# Altium footprint library RF_GSM.PcbLib: 12 footprints
Each footprint in its own frame and in the unit in brackets; x right, y up, seen from the top. Pads: shape width x height; smd on the part's side, far side on the other; paste and mask are expansions set on the pad; w line width, h text height; cw(c..) or ccw(c..) is an arc to the next point about the centre after c.
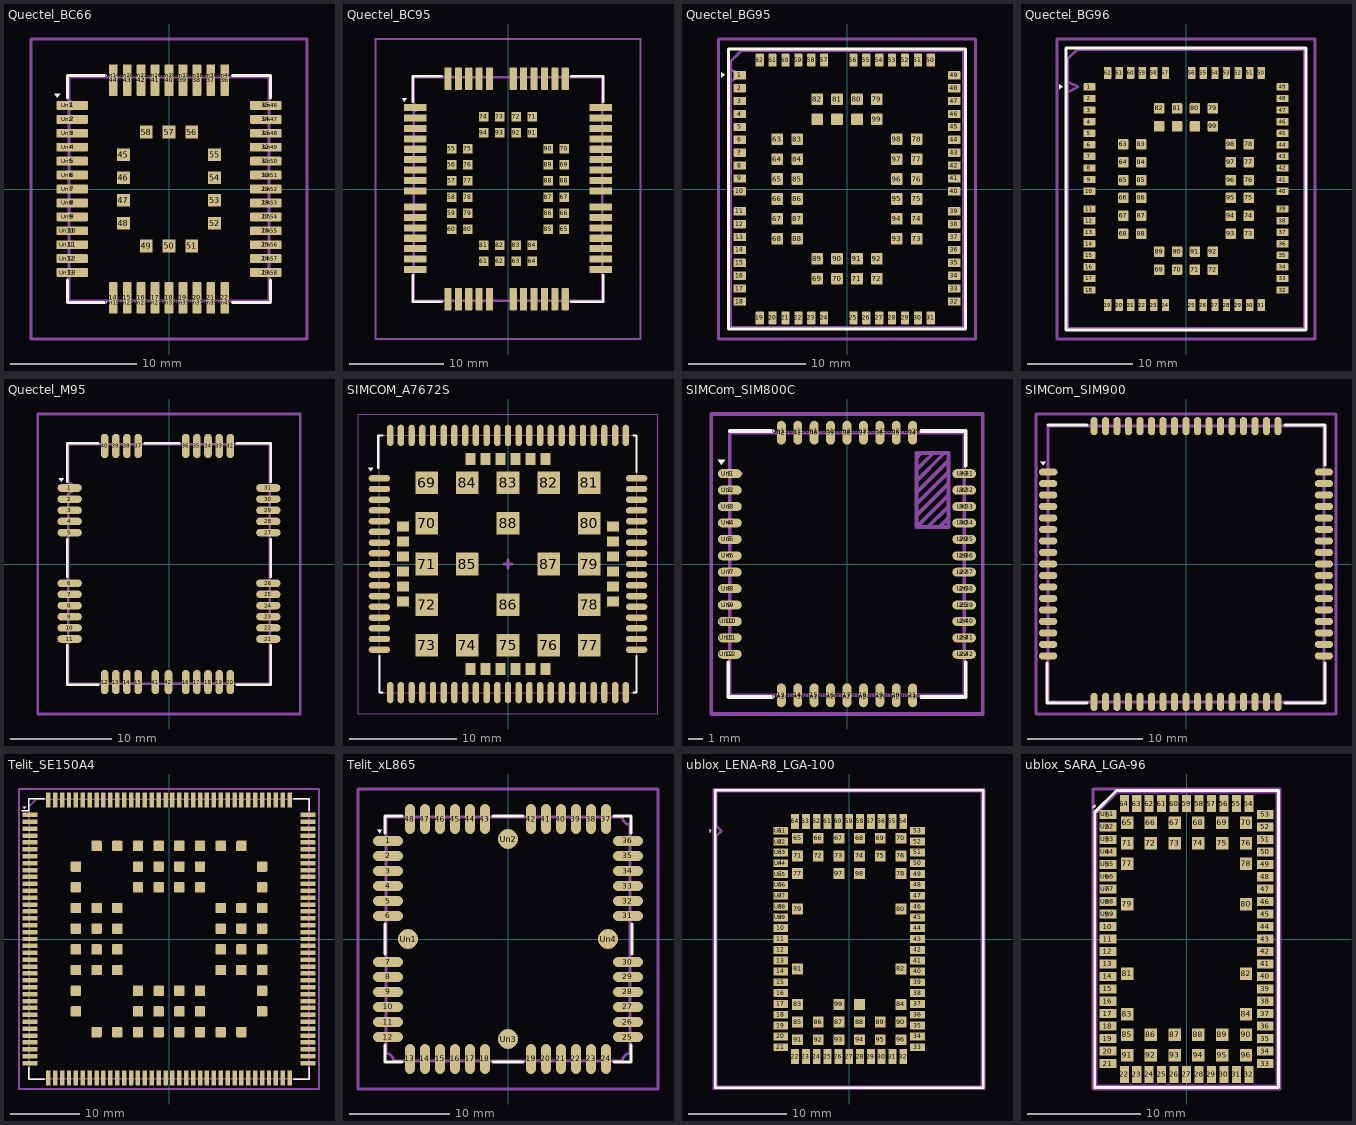
[diagram p0: the footprints below, top view; thin cyan lines are the x and y axes]

## Quectel_BC66 [mm]
pads (116):
  rrect25% 2.5x0.7 smd: 1(-7.65,6.6) 2(-7.65,5.5) 3(-7.65,4.4) 4(-7.65,3.3) 5(-7.65,2.2) 6(-7.65,1.1) 7(-7.65,0) 8(-7.65,-1.1) 9(-7.65,-2.2) 10(-7.65,-3.3) 11(-7.65,-4.4) 12(-7.65,-5.5) 13(-7.65,-6.6) 23(7.65,-6.6) 24(7.65,-5.5) 25(7.65,-4.4) 26(7.65,-3.3) 27(7.65,-2.2) 28(7.65,-1.1) 29(7.65,0) 30(7.65,1.1) 31(7.65,2.2) 32(7.65,3.3) 33(7.65,4.4) 34(7.65,5.5) 35(7.65,6.6)
  rrect25% 0.7x2.5 smd: 14(-4.4,-8.6) 15(-3.3,-8.6) 16(-2.2,-8.6) 17(-1.1,-8.6) 18(0,-8.6) 19(1.1,-8.6) 20(2.2,-8.6) 21(3.3,-8.6) 22(4.4,-8.6) 36(4.4,8.6) 37(3.3,8.6) 38(2.2,8.6) 39(1.1,8.6) 40(0,8.6) 41(-1.1,8.6) 42(-2.2,8.6) 43(-3.3,8.6) 44(-4.4,8.6)
  rect 1x1 smd: 45(-3.6,2.7) 46(-3.6,0.9) 47(-3.6,-0.9) 48(-3.6,-2.7) 49(-1.8,-4.5) 50(0,-4.5) 51(1.8,-4.5) 52(3.6,-2.7) 53(3.6,-0.9) 54(3.6,0.9) 55(3.6,2.7) 56(1.8,4.5) 57(0,4.5) 58(-1.8,4.5)
  rrect25% 2.9x0.595 on Top Paste: Un1(-8.05,6.6) Un2(-8.05,5.5) Un3(-8.05,4.4) Un4(-8.05,3.3) Un5(-8.05,2.2) Un6(-8.05,1.1) Un7(-8.05,0) Un8(-8.05,-1.1) Un9(-8.05,-2.2) Un10(-8.05,-3.3) Un11(-8.05,-4.4) Un12(-8.05,-5.5) Un13(-8.05,-6.6) Un46(8.05,6.6) Un47(8.05,5.5) Un48(8.05,4.4) Un49(8.05,3.3) Un50(8.05,2.2) Un51(8.05,1.1) Un52(8.05,0) Un53(8.05,-1.1) Un54(8.05,-2.2) Un55(8.05,-3.3) Un56(8.05,-4.4) Un57(8.05,-5.5) Un58(8.05,-6.6)
  rrect25% 0.595x2.9 on Top Paste: Un14(-4.4,9) Un15(-4.4,-9) Un20(-3.3,9) Un21(-3.3,-9) Un22(-2.2,9) Un23(-2.2,-9) Un26(-1.1,9) Un27(-1.1,-9) Un28(0,9) Un31(0,-9) Un32(1.1,9) Un33(1.1,-9) Un36(2.2,9) Un37(2.2,-9) Un38(3.3,9) Un39(3.3,-9) Un44(4.4,9) Un45(4.4,-9)
  round 0.9 on Top Paste: Un16(-3.6,2.7) Un17(-3.6,0.9) Un18(-3.6,-0.9) Un19(-3.6,-2.7) Un24(-1.8,4.5) Un25(-1.8,-4.5) Un29(0,4.5) Un30(0,-4.5) Un34(1.8,4.5) Un35(1.8,-4.5) Un40(3.6,2.7) Un41(3.6,0.9) Un42(3.6,-0.9) Un43(3.6,-2.7)
F.SilkS:
  region: -8.84,7.21 -9.08,7.54 -8.6,7.54
  lines w0.254: -8.01,-7.21 -8.01,-8.96 -5.01,-8.96 ; -8.01,7.21 -8.01,8.96 -5.01,8.96 ; 5.01,-8.96 8.01,-8.96 8.01,-7.21 ; 5.01,8.96 8.01,8.96 8.01,7.21
Top Assembly:
  lines w0.254: -7.9,6.25 -6.9,6.6 -7.9,6.95 ; -7.9,-8.85 7.9,-8.85 7.9,8.85 -7.9,8.85 -7.9,-8.85
  text "'.Designator'" at -4.047,-0.84 h1
Top Courtyard:
  lines w0.254: -10.9,-11.85 10.9,-11.85 10.9,11.85 -10.9,11.85 -10.9,-11.85
Top Designator:
  text ".Designator" at -7.618,-0.508 h1.52

## Quectel_BC95 [mm]
pads (188):
  rrect25% 2.4x0.75 smd: 1(-9.8,8.6) 2(-9.8,7.5) 3(-9.8,6.4) 4(-9.8,5.3) 5(-9.8,4.2) 6(-9.8,3.1) 7(-9.8,2) 8(-9.8,0.9) 9(-9.8,-0.2) 10(-9.8,-1.9) 11(-9.8,-3) 12(-9.8,-4.1) 13(-9.8,-5.2) 14(-9.8,-6.3) 15(-9.8,-7.4) 16(-9.8,-8.5) 28(9.8,-8.5) 29(9.8,-7.4) 30(9.8,-6.3) 31(9.8,-5.2) 32(9.8,-4.1) 33(9.8,-3) 34(9.8,-1.9) 35(9.8,-0.2) 36(9.8,0.9) 37(9.8,2) 38(9.8,3.1) 39(9.8,4.2) 40(9.8,5.3) 41(9.8,6.4) 42(9.8,7.5) 43(9.8,8.6)
  rrect25% 0.75x2.4 smd: 17(-6.35,-11.65) 18(-5.25,-11.65) 19(-4.15,-11.65) 20(-3.05,-11.65) 21(-1.95,-11.65) 22(0.55,-11.65) 23(1.65,-11.65) 24(2.75,-11.65) 25(3.85,-11.65) 26(4.95,-11.65) 27(6.05,-11.65) 44(6.05,11.65) 45(4.95,11.65) 46(3.85,11.65) 47(2.75,11.65) 48(1.65,11.65) 49(0.55,11.65) 50(-1.95,11.65) 51(-3.05,11.65) 52(-4.15,11.65) 53(-5.25,11.65) 54(-6.35,11.65)
  rect 1x1 smd: 55(-5.95,4.25) 56(-5.95,2.55) 57(-5.95,0.85) 58(-5.95,-0.85) 59(-5.95,-2.55) 60(-5.95,-4.25) 61(-2.55,-7.65) 62(-0.85,-7.65) 63(0.85,-7.65) 64(2.55,-7.65) 65(5.95,-4.25) 66(5.95,-2.55) 67(5.95,-0.85) 68(5.95,0.85) 69(5.95,2.55) 70(5.95,4.25) 71(2.55,7.65) 72(0.85,7.65) 73(-0.85,7.65) 74(-2.55,7.65) 75(-4.25,4.25) 76(-4.25,2.55) 77(-4.25,0.85) 78(-4.25,-0.85) 79(-4.25,-2.55) 80(-4.25,-4.25) 81(-2.55,-5.95) 82(-0.85,-5.95) 83(0.85,-5.95) 84(2.55,-5.95) 85(4.25,-4.25) 86(4.25,-2.55) 87(4.25,-0.85) 88(4.25,0.85) 89(4.25,2.55) 90(4.25,4.25) 91(2.55,5.95) 92(0.85,5.95) 93(-0.85,5.95) 94(-2.55,5.95)
  rrect25% 2.6x0.637 on Top Paste: Un1(-10.1,8.6) Un2(-10.1,7.5) Un3(-10.1,6.4) Un4(-10.1,5.3) Un5(-10.1,4.2) Un6(-10.1,3.1) Un7(-10.1,2) Un8(-10.1,0.9) Un9(-10.1,-0.2) Un10(-10.1,-1.9) Un11(-10.1,-3) Un12(-10.1,-4.1) Un13(-10.1,-5.2) Un14(-10.1,-6.3) Un15(-10.1,-7.4) Un16(-10.1,-8.5) Un79(10.1,8.6) Un80(10.1,7.5) Un81(10.1,6.4) Un82(10.1,5.3) Un83(10.1,4.2) Un84(10.1,3.1) Un85(10.1,2) Un86(10.1,0.9) Un87(10.1,-0.2) Un88(10.1,-1.9) Un89(10.1,-3) Un90(10.1,-4.1) Un91(10.1,-5.2) Un92(10.1,-6.3) Un93(10.1,-7.4) Un94(10.1,-8.5)
  rrect25% 0.637x2.6 on Top Paste: Un17(-6.35,11.95) Un18(-6.35,-11.95) Un25(-5.25,11.95) Un26(-5.25,-11.95) Un33(-4.15,11.95) Un34(-4.15,-11.95) Un35(-3.05,11.95) Un36(-3.05,-11.95) Un41(-1.95,11.95) Un42(-1.95,-11.95) Un47(0.55,11.95) Un48(0.55,-11.95) Un53(1.65,11.95) Un54(1.65,-11.95) Un59(2.75,11.95) Un60(2.75,-11.95) Un61(3.85,11.95) Un62(3.85,-11.95) Un69(4.95,11.95) Un70(4.95,-11.95) Un77(6.05,11.95) Un78(6.05,-11.95)
  round 0.9 on Top Paste: Un19(-5.95,4.25) Un20(-5.95,2.55) Un21(-5.95,0.85) Un22(-5.95,-0.85) Un23(-5.95,-2.55) Un24(-5.95,-4.25) Un27(-4.25,4.25) Un28(-4.25,2.55) Un29(-4.25,0.85) Un30(-4.25,-0.85) Un31(-4.25,-2.55) Un32(-4.25,-4.25) Un37(-2.55,7.65) Un38(-2.55,5.95) Un39(-2.55,-5.95) Un40(-2.55,-7.65) Un43(-0.85,7.65) Un44(-0.85,5.95) Un45(-0.85,-5.95) Un46(-0.85,-7.65) Un49(0.85,7.65) Un50(0.85,5.95) Un51(0.85,-5.95) Un52(0.85,-7.65) Un55(2.55,7.65) Un56(2.55,5.95) Un57(2.55,-5.95) Un58(2.55,-7.65) Un63(4.25,4.25) Un64(4.25,2.55) Un65(4.25,0.85) Un66(4.25,-0.85) Un67(4.25,-2.55) Un68(4.25,-4.25) Un71(5.95,4.25) Un72(5.95,2.55) Un73(5.95,0.85) Un74(5.95,-0.85) Un75(5.95,-2.55) Un76(5.95,-4.25)
F.SilkS:
  region: -10.94,9.235 -11.18,9.565 -10.7,9.565
  lines w0.254: -10.06,-9.135 -10.06,-11.91 -6.985,-11.91 ; -10.06,9.235 -10.06,11.91 -6.985,11.91 ; 6.685,-11.91 10.06,-11.91 10.06,-9.135 ; 6.685,11.91 10.06,11.91 10.06,9.235
Top Assembly:
  lines w0.254: -9.95,8.225 -8.95,8.6 -9.95,8.975 ; -9.95,-11.8 9.95,-11.8 9.95,11.8 -9.95,11.8 -9.95,-11.8
  text "'.Designator'" at -4.047,-0.84 h1
Top Courtyard:
  lines w0.254: -14,-15.85 14,-15.85 14,15.85 -14,15.85 -14,-15.85
Top Designator:
  text ".Designator" at -7.618,-0.508 h1.52

## Quectel_BG95 [mm]
pads (102):
  rrect20% 1.1x0.7 smd: 1(-9.15,9.7) 2(-9.15,8.6) 3(-9.15,7.5) 4(-9.15,6.4) 5(-9.15,5.3) 6(-9.15,4.2) 7(-9.15,3.1) 8(-9.15,2) 9(-9.15,0.9) 10(-9.15,-0.2) 11(-9.15,-1.9) 12(-9.15,-3) 13(-9.15,-4.1) 14(-9.15,-5.2) 15(-9.15,-6.3) 16(-9.15,-7.4) 17(-9.15,-8.5) 18(-9.15,-9.6) 32(9.15,-9.6) 33(9.15,-8.5) 34(9.15,-7.4) 35(9.15,-6.3) 36(9.15,-5.2) 37(9.15,-4.1) 38(9.15,-3) 39(9.15,-1.9) 40(9.15,-0.2) 41(9.15,0.9) 42(9.15,2) 43(9.15,3.1) 44(9.15,4.2) 45(9.15,5.3) 46(9.15,6.4) 47(9.15,7.5) 48(9.15,8.6) 49(9.15,9.7)
  rrect20% 0.7x1.1 smd: 19(-7.45,-11) 20(-6.35,-11) 21(-5.25,-11) 22(-4.15,-11) 23(-3.05,-11) 24(-1.95,-11) 25(0.55,-11) 26(1.65,-11) 27(2.75,-11) 28(3.85,-11) 29(4.95,-11) 30(6.05,-11) 31(7.15,-11) 50(7.15,11) 51(6.05,11) 52(4.95,11) 53(3.85,11) 54(2.75,11) 55(1.65,11) 56(0.55,11) 57(-1.95,11) 58(-3.05,11) 59(-4.15,11) 60(-5.25,11) 61(-6.35,11) 62(-7.45,11)
  rrect20% 1x1 smd: 63(-5.95,4.25) 64(-5.95,2.55) 65(-5.95,0.85) 66(-5.95,-0.85) 67(-5.95,-2.55) 68(-5.95,-4.25) 69(-2.55,-7.65) 70(-0.85,-7.65) 71(0.85,-7.65) 72(2.55,-7.65) 73(5.95,-4.25) 74(5.95,-2.55) 75(5.95,-0.85) 76(5.95,0.85) 77(5.95,2.55) 78(5.95,4.25) 79(2.55,7.65) 80(0.85,7.65) 81(-0.85,7.65) 82(-2.55,7.65) 83(-4.25,4.25) 84(-4.25,2.55) 85(-4.25,0.85) 86(-4.25,-0.85) 87(-4.25,-2.55) 88(-4.25,-4.25) 89(-2.55,-5.95) 90(-0.85,-5.95) 91(0.85,-5.95) 92(2.55,-5.95) 93(4.25,-4.25) 94(4.25,-2.55) 95(4.25,-0.85) 96(4.25,0.85) 97(4.25,2.55) 98(4.25,4.25) 99(2.55,5.95) 100(0.85,5.95) 101(-0.85,5.95) 102(-2.55,5.95)
F.SilkS:
  region: -10.42,9.74 -10.75,9.5 -10.75,9.98
  lines w0.254: -10.1,-11.95 10.1,-11.95 10.1,11.95 -10.1,11.95 -10.1,-11.95
Top Assembly:
  lines w0.254: -9.95,9.2 -8.95,9.7 -9.95,10.2 ; -9.95,-11.8 9.95,-11.8 9.95,11.8 -9.03,11.8 -9.95,10.88 -9.95,-11.8
  text "'.Designator'" at -4.047,-0.84 h1
Top Courtyard:
  lines w0.254: -10.95,-12.8 10.95,-12.8 10.95,12.8 -10.95,12.8 -10.95,-12.8
Top Designator:
  text ".Designator" at -7.618,-0.508 h1.52

## Quectel_BG96 [mm]
pads (204):
  rrect20% 1.15x0.7 smd: 1(-9.18,9.7) 2(-9.18,8.6) 3(-9.18,7.5) 4(-9.18,6.4) 5(-9.18,5.3) 6(-9.18,4.2) 7(-9.18,3.1) 8(-9.18,2) 9(-9.18,0.9) 10(-9.18,-0.2) 11(-9.18,-1.9) 12(-9.18,-3) 13(-9.18,-4.1) 14(-9.18,-5.2) 15(-9.18,-6.3) 16(-9.18,-7.4) 17(-9.18,-8.5) 18(-9.18,-9.6) 32(9.18,-9.6) 33(9.18,-8.5) 34(9.18,-7.4) 35(9.18,-6.3) 36(9.18,-5.2) 37(9.18,-4.1) 38(9.18,-3) 39(9.18,-1.9) 40(9.18,-0.2) 41(9.18,0.9) 42(9.18,2) 43(9.18,3.1) 44(9.18,4.2) 45(9.18,5.3) 46(9.18,6.4) 47(9.18,7.5) 48(9.18,8.6) 49(9.18,9.7)
  rrect20% 0.7x1.15 smd: 19(-7.45,-11.03) 20(-6.35,-11.03) 21(-5.25,-11.03) 22(-4.15,-11.03) 23(-3.05,-11.03) 24(-1.95,-11.03) 25(0.55,-11.03) 26(1.65,-11.03) 27(2.75,-11.03) 28(3.85,-11.03) 29(4.95,-11.03) 30(6.05,-11.03) 31(7.15,-11.03) 50(7.15,11.03) 51(6.05,11.03) 52(4.95,11.03) 53(3.85,11.03) 54(2.75,11.03) 55(1.65,11.03) 56(0.55,11.03) 57(-1.95,11.03) 58(-3.05,11.03) 59(-4.15,11.03) 60(-5.25,11.03) 61(-6.35,11.03) 62(-7.45,11.03)
  rrect20% 1x1 smd: 63(-5.95,4.25) 64(-5.95,2.55) 65(-5.95,0.85) 66(-5.95,-0.85) 67(-5.95,-2.55) 68(-5.95,-4.25) 69(-2.55,-7.65) 70(-0.85,-7.65) 71(0.85,-7.65) 72(2.55,-7.65) 73(5.95,-4.25) 74(5.95,-2.55) 75(5.95,-0.85) 76(5.95,0.85) 77(5.95,2.55) 78(5.95,4.25) 79(2.55,7.65) 80(0.85,7.65) 81(-0.85,7.65) 82(-2.55,7.65) 83(-4.25,4.25) 84(-4.25,2.55) 85(-4.25,0.85) 86(-4.25,-0.85) 87(-4.25,-2.55) 88(-4.25,-4.25) 89(-2.55,-5.95) 90(-0.85,-5.95) 91(0.85,-5.95) 92(2.55,-5.95) 93(4.25,-4.25) 94(4.25,-2.55) 95(4.25,-0.85) 96(4.25,0.85) 97(4.25,2.55) 98(4.25,4.25) 99(2.55,5.95) 100(0.85,5.95) 101(-0.85,5.95) 102(-2.55,5.95)
  rrect25% 1.1x0.6 on Top Paste: Un1(-9.18,9.7) Un2(-9.18,8.6) Un3(-9.18,7.5) Un4(-9.18,6.4) Un5(-9.18,5.3) Un6(-9.18,4.2) Un7(-9.18,3.1) Un8(-9.18,2) Un9(-9.18,0.9) Un10(-9.18,-0.2) Un11(-9.18,-1.9) Un12(-9.18,-3) Un13(-9.18,-4.1) Un14(-9.18,-5.2) Un15(-9.18,-6.3) Un16(-9.18,-7.4) Un17(-9.18,-8.5) Un18(-9.18,-9.6) Un85(9.18,9.7) Un86(9.18,8.6) Un87(9.18,7.5) Un88(9.18,6.4) Un89(9.18,5.3) Un90(9.18,4.2) Un91(9.18,3.1) Un92(9.18,2) Un93(9.18,0.9) Un94(9.18,-0.2) Un95(9.18,-1.9) Un96(9.18,-3) Un97(9.18,-4.1) Un98(9.18,-5.2) Un99(9.18,-6.3) Un100(9.18,-7.4) Un101(9.18,-8.5) Un102(9.2,-9.6)
  rrect25% 0.6x1.1 on Top Paste: Un19(-7.45,11.03) Un20(-7.45,-11.03) Un21(-6.35,11.03) Un22(-6.35,-11.03) Un29(-5.25,11.03) Un30(-5.25,-11.03) Un37(-4.15,11.03) Un38(-4.15,-11.03) Un39(-3.05,11.03) Un40(-3.05,-11.03) Un45(-1.95,11.03) Un46(-1.95,-11.03) Un51(0.55,11.03) Un52(0.55,-11.03) Un57(1.65,11.03) Un58(1.65,-11.03) Un63(2.75,11.03) Un64(2.75,-11.03) Un65(3.85,11.03) Un66(3.85,-11.03) Un73(4.95,11.03) Un74(4.95,-11.03) Un81(6.05,11.03) Un82(6.05,-11.03) Un83(7.15,11.03) Un84(7.15,-11.03)
  round 0.95 on Top Paste: Un23(-5.95,4.25) Un24(-5.95,2.55) Un25(-5.95,0.85) Un26(-5.95,-0.85) Un27(-5.95,-2.55) Un28(-5.95,-4.25) Un31(-4.25,4.25) Un32(-4.25,2.55) Un33(-4.25,0.85) Un34(-4.25,-0.85) Un35(-4.25,-2.55) Un36(-4.25,-4.25) Un41(-2.55,7.65) Un42(-2.55,5.95) Un43(-2.55,-5.95) Un44(-2.55,-7.65) Un47(-0.85,7.65) Un48(-0.85,5.95) Un49(-0.85,-5.95) Un50(-0.85,-7.65) Un53(0.85,7.65) Un54(0.85,5.95) Un55(0.85,-5.95) Un56(0.85,-7.65) Un59(2.55,7.65) Un60(2.55,5.95) Un61(2.55,-5.95) Un62(2.55,-7.65) Un67(4.25,4.25) Un68(4.25,2.55) Un69(4.25,0.85) Un70(4.25,-0.85) Un71(4.25,-2.55) Un72(4.25,-4.25) Un75(5.95,4.25) Un76(5.95,2.55) Un77(5.95,0.85) Un78(5.95,-0.85) Un79(5.95,-2.55) Un80(5.95,-4.25)
F.SilkS:
  region: -11.7,9.7 -12.03,9.46 -12.03,9.94
  lines w0.254: -11.4,-13.4 11.4,-13.4 11.4,13.4 -11.4,13.4 -11.4,-13.4
Top Assembly:
  lines w0.254: -11.25,9.2 -10.25,9.7 -11.25,10.2 ; -11.25,-13.25 11.25,-13.25 11.25,13.25 -10.33,13.25 -11.25,12.33 -11.25,-13.25
  text "'.Designator'" at -4.047,-0.84 h1
Top Courtyard:
  lines w0.254: -12.25,-14.25 12.25,-14.25 12.25,14.25 -12.25,14.25 -12.25,-14.25
Top Designator:
  text ".Designator" at -7.618,-0.508 h1.52

## Quectel_M95 [mm]
pads (84):
  rrect100% 2.4x0.75 smd: 1(-9.8,7.5) 2(-9.8,6.4) 3(-9.8,5.3) 4(-9.8,4.2) 5(-9.8,3.1) 6(-9.8,-1.9) 7(-9.8,-3) 8(-9.8,-4.1) 9(-9.8,-5.2) 10(-9.8,-6.3) 11(-9.8,-7.4) 21(9.8,-7.4) 22(9.8,-6.3) 23(9.8,-5.2) 24(9.8,-4.1) 25(9.8,-3) 26(9.8,-1.9) 27(9.8,3.1) 28(9.8,4.2) 29(9.8,5.3) 30(9.8,6.4) 31(9.8,7.5)
  rrect100% 0.75x2.4 smd: 12(-6.35,-11.65) 13(-5.25,-11.65) 14(-4.15,-11.65) 15(-3.05,-11.65) 16(1.65,-11.65) 17(2.75,-11.65) 18(3.85,-11.65) 19(4.95,-11.65) 20(6.05,-11.65) 32(6.05,11.65) 33(4.95,11.65) 34(3.85,11.65) 35(2.75,11.65) 36(1.65,11.65) 37(-3.05,11.65) 38(-4.15,11.65) 39(-5.25,11.65) 40(-6.35,11.65) 41(-1.35,-11.65) 42(-0.05,-11.65)
  rrect100% 2.8x0.675 on Top Paste: Un1(-10.1,7.5) Un2(-10.1,6.4) Un3(-10.1,5.3) Un4(-10.1,4.2) Un5(-10.1,3.1) Un6(-10.1,-1.9) Un7(-10.1,-3) Un8(-10.1,-4.1) Un9(-10.1,-5.2) Un10(-10.1,-6.3) Un11(-10.1,-7.4) Un32(10.1,7.5) Un33(10.1,6.4) Un34(10.1,5.3) Un35(10.1,4.2) Un36(10.1,3.1) Un37(10.1,-1.9) Un38(10.1,-3) Un39(10.1,-4.1) Un40(10.1,-5.2) Un41(10.1,-6.3) Un42(10.1,-7.4)
  rrect100% 0.675x2.8 on Top Paste: Un12(-6.35,11.95) Un13(-6.35,-11.95) Un14(-5.25,11.95) Un15(-5.25,-11.95) Un16(-4.15,11.95) Un17(-4.15,-11.95) Un18(-3.05,11.95) Un19(-3.05,-11.95) Un20(-1.35,-11.95) Un21(-0.05,-11.95) Un22(1.65,11.95) Un23(1.65,-11.95) Un24(2.75,11.95) Un25(2.75,-11.95) Un26(3.85,11.95) Un27(3.85,-11.95) Un28(4.95,11.95) Un29(4.95,-11.95) Un30(6.05,11.95) Un31(6.05,-11.95)
F.SilkS:
  region: -10.64,8.14 -10.88,8.47 -10.4,8.47
  lines w0.254: -10.06,-8.04 -10.06,-11.91 -6.99,-11.91 ; -10.06,-1.26 -10.06,2.46 ; -10.06,8.14 -10.06,11.91 -6.99,11.91 ; -2.41,11.91 1.01,11.91 ; 6.69,-11.91 10.06,-11.91 10.06,-8.04 ; 6.69,11.91 10.06,11.91 10.06,8.14 ; 10.06,-1.26 10.06,2.46
Top Assembly:
  lines w0.254: -9.95,-11.8 -9.95,6.925 -8.95,7.5 -9.95,8.075 -9.95,11.8 9.95,11.8 9.95,-11.8 -9.95,-11.8
  text "'.Designator'" at -4.047,-0.84 h1
Top Courtyard:
  lines w0.254: -12.95,-14.8 -12.95,14.8 12.95,14.8 12.95,-14.8 -12.95,-14.8
Top Designator:
  text ".Designator" at -7.618,-0.508 h1.52

## SIMCOM_A7672S [mm]
pads (124):
  oval 2x0.6 smd: 1(-12,8) 2(-12,7) 3(-12,6) 4(-12,5) 5(-12,4) 6(-12,3) 7(-12,2) 8(-12,1) 9(-12,0) 10(-12,-1) 11(-12,-2) 12(-12,-3) 13(-12,-4) 14(-12,-5) 15(-12,-6) 16(-12,-7) 17(-12,-8) 35(12,-8) 36(12,-7) 37(12,-6) 38(12,-5) 39(12,-4) 40(12,-3) 41(12,-2) 42(12,-1) 43(12,0) 44(12,1) 45(12,2) 46(12,3) 47(12,4) 48(12,5) 49(12,6) 50(12,7) 51(12,8)
  oval 0.6x2 smd: 18(-8,-12) 19(-7,-12) 20(-6,-12) 21(-5,-12) 22(-4,-12) 23(-3,-12) 24(-2,-12) 25(-1,-12) 26(0,-12) 27(1,-12) 28(2,-12) 29(3,-12) 30(4,-12) 31(5,-12) 32(6,-12) 33(7,-12) 34(8,-12) 52(8,12) 53(7,12) 54(6,12) 55(5,12) 56(4,12) 57(3,12) 58(2,12) 59(1,12) 60(0,12) 61(-1,12) 62(-2,12) 63(-3,12) 64(-4,12) 65(-5,12) 66(-6,12) 67(-7,12) 68(-8,12) 89(-11,-12) 90(-10,-12) 91(-9,-12) 92(9,-12) 93(10,-12) 94(11,-12) 95(11,12) 96(10,12) 97(9,12) 98(-9,12) 99(-10,12) 100(-11,12)
  rect 2.1x2.1 smd: 69(-7.6,7.6) 70(-7.6,3.8) 71(-7.6,0) 72(-7.6,-3.8) 73(-7.6,-7.6) 74(-3.8,-7.6) 75(0,-7.6) 76(3.8,-7.6) 77(7.6,-7.6) 78(7.6,-3.8) 79(7.6,0) 80(7.6,3.8) 81(7.6,7.6) 82(3.8,7.6) 83(0,7.6) 84(-3.8,7.6) 85(-3.8,0) 86(0,-3.8) 87(3.8,0) 88(0,3.8)
  rect 1.1x0.9 smd: 101(-9.8,3.5) 102(-9.8,2.1) 103(-9.8,0.7) 104(-9.8,-0.7) 105(-9.8,-2.1) 106(-9.8,-3.5) 113(9.8,-3.5) 114(9.8,-2.1) 115(9.8,-0.7) 116(9.8,0.7) 117(9.8,2.1) 118(9.8,3.5)
  rect 0.9x1.1 smd: 107(-3.5,-9.8) 108(-2.1,-9.8) 109(-0.7,-9.8) 110(0.7,-9.8) 111(2.1,-9.8) 112(3.5,-9.8) 119(3.5,9.8) 120(2.1,9.8) 121(0.7,9.8) 122(-0.7,9.8) 123(-2.1,9.8) 124(-3.5,9.8)
F.SilkS:
  region: -12.799,8.648 -13.039,8.978 -12.559,8.978
  lines w0.2: -12.109,8.949 -12.109,12 -11.7,12 ; -12,-8.6 -12,-12 -11.7,-12 ; 11.7,-12 12,-12 12,-8.6 ; 11.7,12 12,12 12,8.6
Top Component Center:
  lines w0.254: -0.381,0 0.381,0 ; 0,-0.381 0,0.381
Top Assembly:
  region: -12.561,8.1 -12.231,8.34 -12.231,7.86
  lines w0.1: -12,-12 12,-12 12,12 -12,12 -12,-12
Top Courtyard:
  lines w0.1: -14,-14 -14,14 14,14 14,-14 -14,-14
Top Designator:
  text ".Designator" at -7.618,-0.508 h1.52
3D body "SIMCOM_A7672S.STEP": height 2.6, standoff 0, extent -12,-12 12,12

## SIMCom_SIM800C [mm]
pads (84):
  rrect100% 1.6x0.6 smd: 1(-7.85,6.05) 2(-7.85,4.95) 3(-7.85,3.85) 4(-7.85,2.75) 5(-7.85,1.65) 6(-7.85,0.55) 7(-7.85,-0.55) 8(-7.85,-1.65) 9(-7.85,-2.75) 10(-7.85,-3.85) 11(-7.85,-4.95) 12(-7.85,-6.05) 22(7.85,-6.05) 23(7.85,-4.95) 24(7.85,-3.85) 25(7.85,-2.75) 26(7.85,-1.65) 27(7.85,-0.55) 28(7.85,0.55) 29(7.85,1.65) 30(7.85,2.75) 31(7.85,3.85) 32(7.85,4.95) 33(7.85,6.05)
  rrect100% 0.6x1.6 smd: 13(-4.4,-8.8) 14(-3.3,-8.8) 15(-2.2,-8.8) 16(-1.1,-8.8) 17(0,-8.8) 18(1.1,-8.8) 19(2.2,-8.8) 20(3.3,-8.8) 21(4.4,-8.8) 34(4.4,8.8) 35(3.3,8.8) 36(2.2,8.8) 37(1.1,8.8) 38(0,8.8) 39(-1.1,8.8) 40(-2.2,8.8) 41(-3.3,8.8) 42(-4.4,8.8)
  rrect100% 1.8x0.55 on Top Paste: Un1(-7.95,6.05) Un2(-7.95,4.95) Un3(-7.95,3.85) Un4(-7.95,2.75) Un5(-7.95,1.65) Un6(-7.95,0.55) Un7(-7.95,-0.55) Un8(-7.95,-1.65) Un9(-7.95,-2.75) Un10(-7.95,-3.85) Un11(-7.95,-4.95) Un12(-7.95,-6.05) Un31(7.95,6.05) Un32(7.95,4.95) Un33(7.95,3.85) Un34(7.95,2.75) Un35(7.95,1.65) Un36(7.95,0.55) Un37(7.95,-0.55) Un38(7.95,-1.65) Un39(7.95,-2.75) Un40(7.95,-3.85) Un41(7.95,-4.95) Un42(7.95,-6.05)
  rrect100% 0.55x1.8 on Top Paste: Un13(-4.4,8.9) Un14(-4.4,-8.9) Un15(-3.3,8.9) Un16(-3.3,-8.9) Un17(-2.2,8.9) Un18(-2.2,-8.9) Un19(-1.1,8.9) Un20(-1.1,-8.9) Un21(0,8.9) Un22(0,-8.9) Un23(1.1,8.9) Un24(1.1,-8.9) Un25(2.2,8.9) Un26(2.2,-8.9) Un27(3.3,8.9) Un28(3.3,-8.9) Un29(4.4,8.9) Un30(4.4,-8.9)
F.SilkS:
  region: -8.41,6.64 -8.65,6.97 -8.17,6.97
  lines w0.254: -7.96,-6.6 -7.96,-8.91 -5,-8.91 ; -7.85,8.91 -5,8.91 ; 5,-8.91 7.96,-8.91 7.96,-6.6 ; 5,8.91 7.96,8.91 7.96,6.6
Top Assembly:
  lines w0.254: -7.85,5.8 -7.1,6.05 -7.85,6.3 ; -7.85,-8.8 7.85,-8.8 7.85,8.8 -7.85,8.8 -7.85,-8.8
  text "'.Designator'" at -4.047,-0.84 h1
Top Courtyard:
  lines w0.254: -9.1,-10.05 9.1,-10.05 9.1,10.05 -9.1,10.05 -9.1,-10.05
Top Designator:
  text ".Designator" at -7.618,-0.508 h1.52
Dwgs.User:
  lines w0.254: 4.65,3.25 6.8,5.4 ; 4.65,4.02 6.8,6.17 ; 4.65,4.79 6.8,6.94 ; 4.65,5.56 6.51,7.42 ; 4.65,6.33 5.78,7.42 ; 4.65,7.1 4.97,7.42 ; 5.415,2.486 6.8,3.86 ; 6.18,2.48 6.8,3.09 ; 6.8,4.63 4.65,2.48 ; 4.65,2.48 6.8,2.48 6.8,7.43 4.65,7.43 4.65,2.48
Cmts.User:
  text "Keep out" at 5.563,3.2 h0.5
  text "of Area" at 6.3,3.677 h0.5

## SIMCom_SIM900 [mm]
pads (68):
  rrect100% 1.6x0.6 smd: 1(-12,8) 2(-12,7) 3(-12,6) 4(-12,5) 5(-12,4) 6(-12,3) 7(-12,2) 8(-12,1) 9(-12,0) 10(-12,-1) 11(-12,-2) 12(-12,-3) 13(-12,-4) 14(-12,-5) 15(-12,-6) 16(-12,-7) 17(-12,-8) 35(12,-8) 36(12,-7) 37(12,-6) 38(12,-5) 39(12,-4) 40(12,-3) 41(12,-2) 42(12,-1) 43(12,0) 44(12,1) 45(12,2) 46(12,3) 47(12,4) 48(12,5) 49(12,6) 50(12,7) 51(12,8)
  rrect100% 0.6x1.6 smd: 18(-8,-12) 19(-7,-12) 20(-6,-12) 21(-5,-12) 22(-4,-12) 23(-3,-12) 24(-2,-12) 25(-1,-12) 26(0,-12) 27(1,-12) 28(2,-12) 29(3,-12) 30(4,-12) 31(5,-12) 32(6,-12) 33(7,-12) 34(8,-12) 52(8,12) 53(7,12) 54(6,12) 55(5,12) 56(4,12) 57(3,12) 58(2,12) 59(1,12) 60(0,12) 61(-1,12) 62(-2,12) 63(-3,12) 64(-4,12) 65(-5,12) 66(-6,12) 67(-7,12) 68(-8,12)
F.SilkS:
  region: -12.43,8.58 -12.67,8.91 -12.19,8.91
  lines w0.254: -12.11,-8.6 -12.11,-12.11 -8.6,-12.11 ; -12,12.11 -8.6,12.11 ; 8.6,-12.11 12.11,-12.11 12.11,-8.6 ; 8.6,12.11 12.11,12.11 12.11,8.6
Top Assembly:
  lines w0.254: -12,7.73 -11.25,8 -12,8.28 ; -12,-12 12,-12 12,12 -12,12 -12,-12
  text "'.Designator'" at -4.047,-6.34 h1
Top Courtyard:
  lines w0.254: -13.05,-13.05 13.05,-13.05 13.05,13.05 -13.05,13.05 -13.05,-13.05
Top Designator:
  text ".Designator" at -7.618,-0.508 h1.52
Cmts.User:
  text "Area B" at -5.833,1.733 h0.5
  text "Keepout vias" at -6.66,0.255 h0.5
  text "Keepout any" at -2.705,6.067 h0.5
  text "type of copper" at -3.143,5.067 h0.5
  text "A" at -0.79,7.15 h0.5
  text "Area" at -1.306,7.95 h0.5

## Telit_SE150A4 [mm]
pads (466):
  rrect25% 2.2x0.65 smd: 1(-20.15,18) 2(-20.15,17) 3(-20.15,16) 4(-20.15,15) 5(-20.15,14) 6(-20.15,13) 7(-20.15,12) 8(-20.15,11) 9(-20.15,10) 10(-20.15,9) 11(-20.15,8) 12(-20.15,7) 13(-20.15,6) 14(-20.15,5) 15(-20.15,4) 16(-20.15,3) 17(-20.15,2) 18(-20.15,1) 19(-20.15,0) 20(-20.15,-1) 21(-20.15,-2) 22(-20.15,-3) 23(-20.15,-4) 24(-20.15,-5) 25(-20.15,-6) 26(-20.15,-7) 27(-20.15,-8) 28(-20.15,-9) 29(-20.15,-10) 30(-20.15,-11) 31(-20.15,-12) 32(-20.15,-13) 33(-20.15,-14) 34(-20.15,-15) 35(-20.15,-16) 36(-20.15,-17) 37(-20.15,-18) 74(20.15,-18) 75(20.15,-17) 76(20.15,-16) 77(20.15,-15) 78(20.15,-14) 79(20.15,-13) 80(20.15,-12) 81(20.15,-11) 82(20.15,-10) 83(20.15,-9) 84(20.15,-8) 85(20.15,-7) 86(20.15,-6) 87(20.15,-5) 88(20.15,-4) 89(20.15,-3) 90(20.15,-2) 91(20.15,-1) 92(20.15,0) 93(20.15,1) 94(20.15,2) 95(20.15,3) 96(20.15,4) 97(20.15,5) 98(20.15,6) 99(20.15,7) 100(20.15,8) 101(20.15,9) 102(20.15,10) 103(20.15,11) 104(20.15,12) 105(20.15,13) 106(20.15,14) 107(20.15,15) 108(20.15,16) 109(20.15,17) 110(20.15,18)
  rrect25% 0.65x2.2 smd: 38(-17.5,-20.15) 39(-16.5,-20.15) 40(-15.5,-20.15) 41(-14.5,-20.15) 42(-13.5,-20.15) 43(-12.5,-20.15) 44(-11.5,-20.15) 45(-10.5,-20.15) 46(-9.5,-20.15) 47(-8.5,-20.15) 48(-7.5,-20.15) 49(-6.5,-20.15) 50(-5.5,-20.15) 51(-4.5,-20.15) 52(-3.5,-20.15) 53(-2.5,-20.15) 54(-1.5,-20.15) 55(-0.5,-20.15) 56(0.5,-20.15) 57(1.5,-20.15) 58(2.5,-20.15) 59(3.5,-20.15) 60(4.5,-20.15) 61(5.5,-20.15) 62(6.5,-20.15) 63(7.5,-20.15) 64(8.5,-20.15) 65(9.5,-20.15) 66(10.5,-20.15) 67(11.5,-20.15) 68(12.5,-20.15) 69(13.5,-20.15) 70(14.5,-20.15) 71(15.5,-20.15) 72(16.5,-20.15) 73(17.5,-20.15) 111(17.5,20.15) 112(16.5,20.15) 113(15.5,20.15) 114(14.5,20.15) 115(13.5,20.15) 116(12.5,20.15) 117(11.5,20.15) 118(10.5,20.15) 119(9.5,20.15) 120(8.5,20.15) 121(7.5,20.15) 122(6.5,20.15) 123(5.5,20.15) 124(4.5,20.15) 125(3.5,20.15) 126(2.5,20.15) 127(1.5,20.15) 128(0.5,20.15) 129(-0.5,20.15) 130(-1.5,20.15) 131(-2.5,20.15) 132(-3.5,20.15) 133(-4.5,20.15) 134(-5.5,20.15) 135(-6.5,20.15) 136(-7.5,20.15) 137(-8.5,20.15) 138(-9.5,20.15) 139(-10.5,20.15) 140(-11.5,20.15) 141(-12.5,20.15) 142(-13.5,20.15) 143(-14.5,20.15) 144(-15.5,20.15) 145(-16.5,20.15) 146(-17.5,20.15)
  rrect17% 1.5x1.5 smd: 147(-13.5,10.5) 148(-13.5,7.5) 149(-13.5,4.5) 150(-13.5,1.5) 151(-13.5,-1.5) 152(-13.5,-4.5) 153(-13.5,-7.5) 154(-13.5,-10.5) 155(-10.5,-13.5) 156(-7.5,-13.5) 157(-4.5,-13.5) 158(-1.5,-13.5) 159(1.5,-13.5) 160(4.5,-13.5) 161(7.5,-13.5) 162(10.5,-13.5) 163(13.5,-10.5) 164(13.5,-7.5) 165(13.5,-4.5) 166(13.5,-1.5) 167(13.5,1.5) 168(13.5,4.5) 169(13.5,7.5) 170(13.5,10.5) 171(10.5,13.5) 172(7.5,13.5) 173(4.5,13.5) 174(1.5,13.5) 175(-1.5,13.5) 176(-4.5,13.5) 177(-7.5,13.5) 178(-10.5,13.5) 179(-10.5,4.5) 180(-10.5,1.5) 181(-10.5,-1.5) 182(-10.5,-4.5) 183(-4.5,-10.5) 184(-1.5,-10.5) 185(1.5,-10.5) 186(4.5,-10.5) 187(10.5,-4.5) 188(10.5,-1.5) 189(10.5,1.5) 190(10.5,4.5) 191(4.5,10.5) 192(1.5,10.5) 193(-1.5,10.5) 194(-4.5,10.5) 195(-7.5,4.5) 196(-7.5,1.5) 197(-7.5,-1.5) 198(-7.5,-4.5) 199(-4.5,-7.5) 200(-1.5,-7.5) 201(1.5,-7.5) 202(4.5,-7.5) 203(7.5,-4.5) 204(7.5,-1.5) 205(7.5,1.5) 206(7.5,4.5) 207(4.5,7.5) 208(1.5,7.5) 209(-1.5,7.5) 210(-4.5,7.5)
  rrect25% 0.6x0.6 on Top Paste: Un1(-13.85,10.85) Un2(-13.85,10.15) Un3(-13.85,7.85) Un4(-13.85,7.15) Un5(-13.85,4.85) Un6(-13.85,4.15) Un7(-13.85,1.85) Un8(-13.85,1.15) Un9(-13.85,-1.15) Un10(-13.85,-1.85) Un11(-13.85,-4.15) Un12(-13.85,-4.85) Un13(-13.85,-7.15) Un14(-13.85,-7.85) Un15(-13.85,-10.15) Un16(-13.85,-10.85) Un17(-13.15,10.85) Un18(-13.15,10.15) Un19(-13.15,7.85) Un20(-13.15,7.15) Un21(-13.15,4.85) Un22(-13.15,4.15) Un23(-13.15,1.85) Un24(-13.15,1.15) Un25(-13.15,-1.15) Un26(-13.15,-1.85) Un27(-13.15,-4.15) Un28(-13.15,-4.85) Un29(-13.15,-7.15) Un30(-13.15,-7.85) Un31(-13.15,-10.15) Un32(-13.15,-10.85) Un33(-10.85,13.85) Un34(-10.85,13.15) Un35(-10.85,4.85) Un36(-10.85,4.15) Un37(-10.85,1.85) Un38(-10.85,1.15) Un39(-10.85,-1.15) Un40(-10.85,-1.85) Un41(-10.85,-4.15) Un42(-10.85,-4.85) Un43(-10.85,-13.15) Un44(-10.85,-13.85) Un45(-10.15,13.85) Un46(-10.15,13.15) Un47(-10.15,4.85) Un48(-10.15,4.15) Un49(-10.15,1.85) Un50(-10.15,1.15) Un51(-10.15,-1.15) Un52(-10.15,-1.85) Un53(-10.15,-4.15) Un54(-10.15,-4.85) Un55(-10.15,-13.15) Un56(-10.15,-13.85) Un57(-7.85,13.85) Un58(-7.85,13.15) Un59(-7.85,4.85) Un60(-7.85,4.15) Un61(-7.85,1.85) Un62(-7.85,1.15) Un63(-7.85,-1.15) Un64(-7.85,-1.85) Un65(-7.85,-4.15) Un66(-7.85,-4.85) Un67(-7.85,-13.15) Un68(-7.85,-13.85) Un69(-7.15,13.85) Un70(-7.15,13.15) Un71(-7.15,4.85) Un72(-7.15,4.15) Un73(-7.15,1.85) Un74(-7.15,1.15) Un75(-7.15,-1.15) Un76(-7.15,-1.85) Un77(-7.15,-4.15) Un78(-7.15,-4.85) Un79(-7.15,-13.15) Un80(-7.15,-13.85) Un81(-4.85,13.85) Un82(-4.85,13.15) Un83(-4.85,10.85) Un84(-4.85,10.15) Un85(-4.85,7.85) Un86(-4.85,7.15) Un87(-4.85,-7.15) Un88(-4.85,-7.85) Un89(-4.85,-10.15) Un90(-4.85,-10.85) Un91(-4.85,-13.15) Un92(-4.85,-13.85) Un93(-4.15,13.85) Un94(-4.15,13.15) Un95(-4.15,10.85) Un96(-4.15,10.15) Un97(-4.15,7.85) Un98(-4.15,7.15) Un99(-4.15,-7.15) Un100(-4.15,-7.85) Un101(-4.15,-10.15) Un102(-4.15,-10.85) Un103(-4.15,-13.15) Un104(-4.15,-13.85) Un105(-1.85,13.85) Un106(-1.85,13.15) Un107(-1.85,10.85) Un108(-1.85,10.15) Un109(-1.85,7.85) Un110(-1.85,7.15) Un111(-1.85,-7.15) Un112(-1.85,-7.85) Un113(-1.85,-10.15) Un114(-1.85,-10.85) Un115(-1.85,-13.15) Un116(-1.85,-13.85) Un117(-1.15,13.85) Un118(-1.15,13.15) Un119(-1.15,10.85) Un120(-1.15,10.15) Un121(-1.15,7.85) Un122(-1.15,7.15) Un123(-1.15,-7.15) Un124(-1.15,-7.85) Un125(-1.15,-10.15) Un126(-1.15,-10.85) Un127(-1.15,-13.15) Un128(-1.15,-13.85) Un129(1.15,13.85) Un130(1.15,13.15) Un131(1.15,10.85) Un132(1.15,10.15) Un133(1.15,7.85) Un134(1.15,7.15) Un135(1.15,-7.15) Un136(1.15,-7.85) Un137(1.15,-10.15) Un138(1.15,-10.85) Un139(1.15,-13.15) Un140(1.15,-13.85) Un141(1.85,13.85) Un142(1.85,13.15) Un143(1.85,10.85) Un144(1.85,10.15) Un145(1.85,7.85) Un146(1.85,7.15) Un147(1.85,-7.15) Un148(1.85,-7.85) Un149(1.85,-10.15) Un150(1.85,-10.85) Un151(1.85,-13.15) Un152(1.85,-13.85) Un153(4.15,13.85) Un154(4.15,13.15) Un155(4.15,10.85) Un156(4.15,10.15) Un157(4.15,7.85) Un158(4.15,7.15) Un159(4.15,-7.15) Un160(4.15,-7.85) Un161(4.15,-10.15) Un162(4.15,-10.85) Un163(4.15,-13.15) Un164(4.15,-13.85) Un165(4.85,13.85) Un166(4.85,13.15) Un167(4.85,10.85) Un168(4.85,10.15) Un169(4.85,7.85) Un170(4.85,7.15) Un171(4.85,-7.15) Un172(4.85,-7.85) Un173(4.85,-10.15) Un174(4.85,-10.85) Un175(4.85,-13.15) Un176(4.85,-13.85) Un177(7.15,13.85) Un178(7.15,13.15) Un179(7.15,4.85) Un180(7.15,4.15) Un181(7.15,1.85) Un182(7.15,1.15) Un183(7.15,-1.15) Un184(7.15,-1.85) Un185(7.15,-4.15) Un186(7.15,-4.85) Un187(7.15,-13.15) Un188(7.15,-13.85) Un189(7.85,13.85) Un190(7.85,13.15) Un191(7.85,4.85) Un192(7.85,4.15) Un193(7.85,1.85) Un194(7.85,1.15) Un195(7.85,-1.15) Un196(7.85,-1.85) Un197(7.85,-4.15) Un198(7.85,-4.85) Un199(7.85,-13.15) Un200(7.85,-13.85) Un201(10.15,13.85) Un202(10.15,13.15) Un203(10.15,4.85) Un204(10.15,4.15) Un205(10.15,1.85) Un206(10.15,1.15) Un207(10.15,-1.15) Un208(10.15,-1.85) Un209(10.15,-4.15) Un210(10.15,-4.85) Un211(10.15,-13.15) Un212(10.15,-13.85) Un213(10.85,13.85) Un214(10.85,13.15) Un215(10.85,4.85) Un216(10.85,4.15) Un217(10.85,1.85) Un218(10.85,1.15) Un219(10.85,-1.15) Un220(10.85,-1.85) Un221(10.85,-4.15) Un222(10.85,-4.85) Un223(10.85,-13.15) Un224(10.85,-13.85) Un225(13.15,10.85) Un226(13.15,10.15) Un227(13.15,7.85) Un228(13.15,7.15) Un229(13.15,4.85) Un230(13.15,4.15) Un231(13.15,1.85) Un232(13.15,1.15) Un233(13.15,-1.15) Un234(13.15,-1.85) Un235(13.15,-4.15) Un236(13.15,-4.85) Un237(13.15,-7.15) Un238(13.15,-7.85) Un239(13.15,-10.15) Un240(13.15,-10.85) Un241(13.85,10.85) Un242(13.85,10.15) Un243(13.85,7.85) Un244(13.85,7.15) Un245(13.85,4.85) Un246(13.85,4.15) Un247(13.85,1.85) Un248(13.85,1.15) Un249(13.85,-1.15) Un250(13.85,-1.85) Un251(13.85,-4.15) Un252(13.85,-4.85) Un253(13.85,-7.15) Un254(13.85,-7.85) Un255(13.85,-10.15) Un256(13.85,-10.85)
F.SilkS:
  region: -20.96,18.87 -21.2,19.2 -20.72,19.2
  lines w0.254: -21.35,18.6 -20.35,18.6 -20.35,20.35 -18.1,20.35 ; -20.35,-18.6 -20.35,-20.35 -18.1,-20.35 ; 18.1,-20.35 20.35,-20.35 20.35,-18.6 ; 18.1,20.35 20.35,20.35 20.35,18.6
Top Assembly:
  lines w0.254: -20.25,-20.25 20.25,-20.25 20.25,20.25 -19.25,20.25 -20.25,19.25 -20.25,-20.25
  text "'.Designator'" at -4.047,-0.84 h1
Top Courtyard:
  lines w0.254: -21.75,-21.75 21.75,-21.75 21.75,21.75 -21.75,21.75 -21.75,-21.75
Top Designator:
  text ".Designator" at -7.618,-0.508 h1.52

## Telit_xL865 [mm]
pads (52):
  rrect100% 3x1 smd: 1(-12,9.8) 2(-12,8.3) 3(-12,6.8) 4(-12,5.3) 5(-12,3.8) 6(-12,2.3) 7(-12,-2.3) 8(-12,-3.8) 9(-12,-5.3) 10(-12,-6.8) 11(-12,-8.3) 12(-12,-9.8) 25(12,-9.8) 26(12,-8.3) 27(12,-6.8) 28(12,-5.3) 29(12,-3.8) 30(12,-2.3) 31(12,2.3) 32(12,3.8) 33(12,5.3) 34(12,6.8) 35(12,8.3) 36(12,9.8)
  rrect100% 1x3 smd: 13(-9.8,-12) 14(-8.3,-12) 15(-6.8,-12) 16(-5.3,-12) 17(-3.8,-12) 18(-2.3,-12) 19(2.3,-12) 20(3.8,-12) 21(5.3,-12) 22(6.8,-12) 23(8.3,-12) 24(9.8,-12) 37(9.8,12) 38(8.3,12) 39(6.8,12) 40(5.3,12) 41(3.8,12) 42(2.3,12) 43(-2.3,12) 44(-3.8,12) 45(-5.3,12) 46(-6.8,12) 47(-8.3,12) 48(-9.8,12)
  round 2 smd: Un1(-10,0) Un2(0,10) Un3(0,-10) Un4(10,0)
F.SilkS:
  region: -12.85,10.6 -13.09,10.93 -12.61,10.93
  lines w0.254: -12.3,-10.6 -12.3,-12.3 -10.6,-12.3 ; -12.3,-1.5 -12.3,1.5 ; -12.3,10.6 -12.3,12.3 -10.6,12.3 ; -1.5,-12.3 1.5,-12.3 ; -1.5,12.3 1.5,12.3 ; 10.6,-12.3 12.3,-12.3 12.3,-10.6 ; 10.6,12.3 12.3,12.3 12.3,10.6 ; 12.4,-1.5 12.4,1.5
Top Assembly:
  lines w0.254: -12.2,-11.45 cw(c-12.2,-12.2) -11.45,-12.2 11.45,-12.2 cw(c12.2,-12.2) 12.2,-11.45 12.2,11.45 cw(c12.2,12.2) 11.45,12.2 -12.2,12.2 -12.2,-11.45
  text "'.Designator'" at -7.994,-1.581 h2
Top Courtyard:
  lines w0.254: -15,-15 15,-15 15,15 -15,15 -15,-15
Top Designator:
  text ".Designator" at -7.618,-0.508 h1.52

## ublox_LENA-R8_LGA-100 [mm]
pads (200):
  rect 1.5x0.8 smd: 1(-6.95,11) 2(-6.95,9.9) 3(-6.95,8.8) 4(-6.95,7.7) 5(-6.95,6.6) 6(-6.95,5.5) 7(-6.95,4.4) 8(-6.95,3.3) 9(-6.95,2.2) 10(-6.95,1.1) 11(-6.95,0) 12(-6.95,-1.1) 13(-6.95,-2.2) 14(-6.95,-3.3) 15(-6.95,-4.4) 16(-6.95,-5.5) 17(-6.95,-6.6) 18(-6.95,-7.7) 19(-6.95,-8.8) 20(-6.95,-9.9) 21(-6.95,-11) 33(6.95,-11) 34(6.95,-9.9) 35(6.95,-8.8) 36(6.95,-7.7) 37(6.95,-6.6) 38(6.95,-5.5) 39(6.95,-4.4) 40(6.95,-3.3) 41(6.95,-2.2) 42(6.95,-1.1) 43(6.95,0) 44(6.95,1.1) 45(6.95,2.2) 46(6.95,3.3) 47(6.95,4.4) 48(6.95,5.5) 49(6.95,6.6) 50(6.95,7.7) 51(6.95,8.8) 52(6.95,9.9) 53(6.95,11)
  rect 0.8x1.5 smd: 22(-5.5,-11.95) 23(-4.4,-11.95) 24(-3.3,-11.95) 25(-2.2,-11.95) 26(-1.1,-11.95) 27(0,-11.95) 28(1.1,-11.95) 29(2.2,-11.95) 30(3.3,-11.95) 31(4.4,-11.95) 32(5.5,-11.95) 54(5.5,11.95) 55(4.4,11.95) 56(3.3,11.95) 57(2.2,11.95) 58(1.1,11.95) 59(0,11.95) 60(-1.1,11.95) 61(-2.2,11.95) 62(-3.3,11.95) 63(-4.4,11.95) 64(-5.5,11.95)
  rect 1.1x1.1 smd: 65(-5.25,10.25) 66(-3.15,10.25) 67(-1.05,10.25) 68(1.05,10.25) 69(3.15,10.25) 70(5.25,10.25) 71(-5.25,8.45) 72(-3.15,8.45) 73(-1.05,8.45) 74(1.05,8.45) 75(3.15,8.45) 76(5.25,8.45) 77(-5.25,6.65) 78(5.25,6.65) 79(-5.25,3.05) 80(5.25,3.05) 81(-5.25,-3.05) 82(5.25,-3.05) 83(-5.25,-6.65) 84(5.25,-6.65) 85(-5.25,-8.45) 86(-3.15,-8.45) 87(-1.05,-8.45) 88(1.05,-8.45) 89(3.15,-8.45) 90(5.25,-8.45) 91(-5.25,-10.25) 92(-3.15,-10.25) 93(-1.05,-10.25) 94(1.05,-10.25) 95(3.15,-10.25) 96(5.25,-10.25) 97(-1.05,6.65) 98(1.05,6.65) 99(-1.05,-6.65) 100(1.05,-6.65)
  rrect25% 1.55x0.75 on Top Paste: Un1(-7,11) Un2(-7,9.9) Un3(-7,8.8) Un4(-7,7.7) Un5(-7,6.6) Un6(-7,5.5) Un7(-7,4.4) Un8(-7,3.3) Un9(-7,2.2) Un10(-7,1.1) Un11(-7,0) Un12(-7,-1.1) Un13(-7,-2.2) Un14(-7,-3.3) Un15(-7,-4.4) Un16(-7,-5.5) Un17(-7,-6.6) Un18(-7,-7.7) Un19(-7,-8.8) Un20(-7,-9.9) Un21(-7,-11) Un80(7,11) Un81(7,9.9) Un82(7,8.8) Un83(7,7.7) Un84(7,6.6) Un85(7,5.5) Un86(7,4.4) Un87(7,3.3) Un88(7,2.2) Un89(7,1.1) Un90(7,0) Un91(7,-1.1) Un92(7,-2.2) Un93(7,-3.3) Un94(7,-4.4) Un95(7,-5.5) Un96(7,-6.6) Un97(7,-7.7) Un98(7,-8.8) Un99(7,-9.9) Un100(7,-11)
  rrect25% 0.75x1.55 on Top Paste: Un22(-5.5,12) Un23(-5.5,-12) Un32(-4.4,12) Un33(-4.4,-12) Un34(-3.3,12) Un35(-3.3,-12) Un40(-2.2,12) Un41(-2.2,-12) Un42(-1.1,12) Un43(-1.1,-12) Un50(0,12) Un51(0,-12) Un58(1.1,12) Un59(1.1,-12) Un60(2.2,12) Un61(2.2,-12) Un66(3.3,12) Un67(3.3,-12) Un68(4.4,12) Un69(4.4,-12) Un78(5.5,12) Un79(5.5,-12)
  rrect24% 1.05x1.05 on Top Paste: Un24(-5.25,10.25) Un25(-5.25,8.45) Un26(-5.25,6.65) Un27(-5.25,3.05) Un28(-5.25,-3.05) Un29(-5.25,-6.65) Un30(-5.25,-8.45) Un31(-5.25,-10.25) Un36(-3.15,10.25) Un37(-3.15,8.45) Un38(-3.15,-8.45) Un39(-3.15,-10.25) Un44(-1.05,10.25) Un45(-1.05,8.45) Un46(-1.05,6.65) Un47(-1.05,-6.65) Un48(-1.05,-8.45) Un49(-1.05,-10.25) Un52(1.05,10.25) Un53(1.05,8.45) Un54(1.05,6.65) Un55(1.05,-6.65) Un56(1.05,-8.45) Un57(1.05,-10.25) Un62(3.15,10.25) Un63(3.15,8.45) Un64(3.15,-8.45) Un65(3.15,-10.25) Un70(5.25,10.25) Un71(5.25,8.45) Un72(5.25,6.65) Un73(5.25,3.05) Un74(5.25,-3.05) Un75(5.25,-6.65) Un76(5.25,-8.45) Un77(5.25,-10.25)
F.SilkS:
  region: -14,11 -14.198,10.802 -14.198,11.198
  lines w0.254: -13.61,-15.11 13.61,-15.11 13.61,15.11 -13.61,15.11 -13.61,-15.11
Top Assembly:
  lines w0.254: -13.5,-15 13.5,-15 13.5,15 -13.5,15 -13.5,11.5 -13,11 -13.5,10.5 -13.5,-15
  text "'.Designator'" at -4.047,-0.84 h1
Top Courtyard:
  lines w0.254: -13.75,-15.25 13.75,-15.25 13.75,15.25 -13.75,15.25 -13.75,-15.25
Top Designator:
  text ".Designator" at -7.778,-0.508 h1.52

## ublox_SARA_LGA-96 [mm]
pads (192):
  rect 1.5x0.8 smd: 1(-6.95,11) 2(-6.95,9.9) 3(-6.95,8.8) 4(-6.95,7.7) 5(-6.95,6.6) 6(-6.95,5.5) 7(-6.95,4.4) 8(-6.95,3.3) 9(-6.95,2.2) 10(-6.95,1.1) 11(-6.95,0) 12(-6.95,-1.1) 13(-6.95,-2.2) 14(-6.95,-3.3) 15(-6.95,-4.4) 16(-6.95,-5.5) 17(-6.95,-6.6) 18(-6.95,-7.7) 19(-6.95,-8.8) 20(-6.95,-9.9) 21(-6.95,-11) 33(6.95,-11) 34(6.95,-9.9) 35(6.95,-8.8) 36(6.95,-7.7) 37(6.95,-6.6) 38(6.95,-5.5) 39(6.95,-4.4) 40(6.95,-3.3) 41(6.95,-2.2) 42(6.95,-1.1) 43(6.95,0) 44(6.95,1.1) 45(6.95,2.2) 46(6.95,3.3) 47(6.95,4.4) 48(6.95,5.5) 49(6.95,6.6) 50(6.95,7.7) 51(6.95,8.8) 52(6.95,9.9) 53(6.95,11)
  rect 0.8x1.5 smd: 22(-5.5,-11.95) 23(-4.4,-11.95) 24(-3.3,-11.95) 25(-2.2,-11.95) 26(-1.1,-11.95) 27(0,-11.95) 28(1.1,-11.95) 29(2.2,-11.95) 30(3.3,-11.95) 31(4.4,-11.95) 32(5.5,-11.95) 54(5.5,11.95) 55(4.4,11.95) 56(3.3,11.95) 57(2.2,11.95) 58(1.1,11.95) 59(0,11.95) 60(-1.1,11.95) 61(-2.2,11.95) 62(-3.3,11.95) 63(-4.4,11.95) 64(-5.5,11.95)
  rect 1.1x1.1 smd: 65(-5.25,10.25) 66(-3.15,10.25) 67(-1.05,10.25) 68(1.05,10.25) 69(3.15,10.25) 70(5.25,10.25) 71(-5.25,8.45) 72(-3.15,8.45) 73(-1.05,8.45) 74(1.05,8.45) 75(3.15,8.45) 76(5.25,8.45) 77(-5.25,6.65) 78(5.25,6.65) 79(-5.25,3.05) 80(5.25,3.05) 81(-5.25,-3.05) 82(5.25,-3.05) 83(-5.25,-6.65) 84(5.25,-6.65) 85(-5.25,-8.45) 86(-3.15,-8.45) 87(-1.05,-8.45) 88(1.05,-8.45) 89(3.15,-8.45) 90(5.25,-8.45) 91(-5.25,-10.25) 92(-3.15,-10.25) 93(-1.05,-10.25) 94(1.05,-10.25) 95(3.15,-10.25) 96(5.25,-10.25)
  rect 1.55x0.75 on Top Paste: Un1(-7,11) Un2(-7,9.9) Un3(-7,8.8) Un4(-7,7.7) Un5(-7,6.6) Un6(-7,5.5) Un7(-7,4.4) Un8(-7,3.3) Un9(-7,2.2) Un10(-7,1.1) Un11(-7,0) Un12(-7,-1.1) Un13(-7,-2.2) Un14(-7,-3.3) Un15(-7,-4.4) Un16(-7,-5.5) Un17(-7,-6.6) Un18(-7,-7.7) Un19(-7,-8.8) Un20(-7,-9.9) Un21(-7,-11) Un76(7,11) Un77(7,9.9) Un78(7,8.8) Un79(7,7.7) Un80(7,6.6) Un81(7,5.5) Un82(7,4.4) Un83(7,3.3) Un84(7,2.2) Un85(7,1.1) Un86(7,0) Un87(7,-1.1) Un88(7,-2.2) Un89(7,-3.3) Un90(7,-4.4) Un91(7,-5.5) Un92(7,-6.6) Un93(7,-7.7) Un94(7,-8.8) Un95(7,-9.9) Un96(7,-11)
  rect 0.75x1.55 on Top Paste: Un22(-5.5,12) Un23(-5.5,-12) Un32(-4.4,12) Un33(-4.4,-12) Un34(-3.3,12) Un35(-3.3,-12) Un40(-2.2,12) Un41(-2.2,-12) Un42(-1.1,12) Un43(-1.1,-12) Un48(0,12) Un49(0,-12) Un54(1.1,12) Un55(1.1,-12) Un56(2.2,12) Un57(2.2,-12) Un62(3.3,12) Un63(3.3,-12) Un64(4.4,12) Un65(4.4,-12) Un74(5.5,12) Un75(5.5,-12)
  rect 1.05x1.05 on Top Paste: Un24(-5.25,10.25) Un25(-5.25,8.45) Un26(-5.25,6.65) Un27(-5.25,3.05) Un28(-5.25,-3.05) Un29(-5.25,-6.65) Un30(-5.25,-8.45) Un31(-5.25,-10.25) Un36(-3.15,10.25) Un37(-3.15,8.45) Un38(-3.15,-8.45) Un39(-3.15,-10.25) Un44(-1.05,10.25) Un45(-1.05,8.45) Un46(-1.05,-8.45) Un47(-1.05,-10.25) Un50(1.05,10.25) Un51(1.05,8.45) Un52(1.05,-8.45) Un53(1.05,-10.25) Un58(3.15,10.25) Un59(3.15,8.45) Un60(3.15,-8.45) Un61(3.15,-10.25) Un66(5.25,10.25) Un67(5.25,8.45) Un68(5.25,6.65) Un69(5.25,3.05) Un70(5.25,-3.05) Un71(5.25,-6.65) Un72(5.25,-8.45) Un73(5.25,-10.25)
F.SilkS:
  region: -8.07,11.64 -8.35,11.64 -8.07,11.92
  lines w0.254: -8.11,-13.11 8.11,-13.11 8.11,13.11 -6.2,13.11 -8.11,11.2 -8.11,-13.11
Top Assembly:
  lines w0.254: -8,-13 8,-13 8,13 -6.09,13 -8,11.09 -8,-13
  text "'.Designator'" at -4.047,-0.84 h1
Top Courtyard:
  lines w0.254: -8.25,-13.25 8.25,-13.25 8.25,13.25 -8.25,13.25 -8.25,-13.25
Top Designator:
  text ".Designator" at -7.618,-0.508 h1.52